# Altium schematic symbol library RC0805.SchLib: 789 symbols (part 11 of 11)
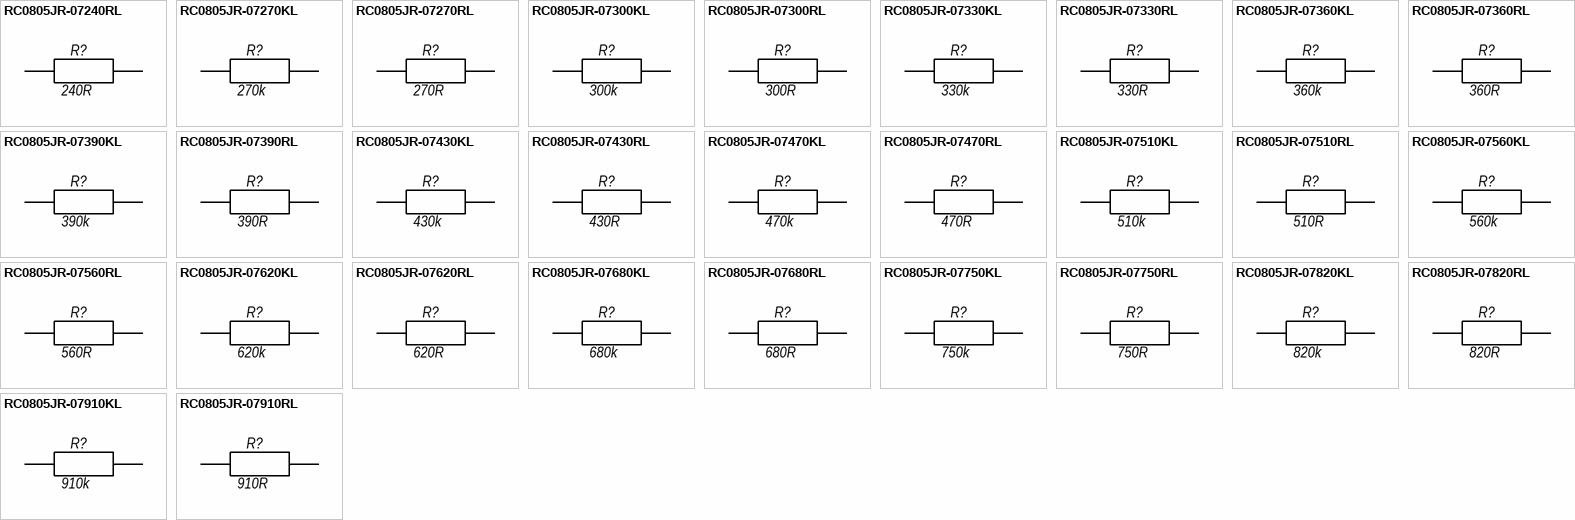
[diagram p29: symbols RC0805JR-07240RL to RC0805JR-07910RL]

## RC0805JR-07820KL
designator R?, comment 820k
RC0805JR-07820KL 0805 820 kOhm ±5% 1/8W 0805 SMD -55C...+155C; Manufacturer: Yageo; BOM2: 820 кОм ±5%, 1/8 Вт, SMD 0805, RC0805JR-07820KL; ValueBOM: RC0805JR-07820KL   Yageo                            (820 кОм ±5%, 1/8 Вт, SMD 0805, RC0805JR-07820KL); Value: 820k; Part Number: RC0805JR-07820KL; Package: 0805; BOM1: 820 kOhm ±5% 1/8W 0805 SMD
footprint RESC_0805_2012N (Chip Resistor, Body 2.0x1.3mm, IPC Medium Density)
footprint RESC_0805_2012M (Chip Resistor, Body 2.0x1.3mm, IPC Low Density)
footprint RESC_0805_2012L (Chip Resistor, Body 2.0x1.3mm, IPC High Density)
pins: 1, 2

## RC0805JR-07820RL
designator R?, comment 820R
RC0805JR-07820RL 0805 820 Ohm ±5% 1/8W 0805 SMD -55C...+155C; Manufacturer: Yageo; BOM2: 820 Ом ±5%, 1/8 Вт, SMD 0805, RC0805JR-07820RL; ValueBOM: RC0805JR-07820RL   Yageo                            (820 Ом ±5%, 1/8 Вт, SMD 0805, RC0805JR-07820RL); Value: 820R; Part Number: RC0805JR-07820RL; Package: 0805; BOM1: 820 Ohm ±5% 1/8W 0805 SMD
footprint RESC_0805_2012N (Chip Resistor, Body 2.0x1.3mm, IPC Medium Density)
footprint RESC_0805_2012M (Chip Resistor, Body 2.0x1.3mm, IPC Low Density)
footprint RESC_0805_2012L (Chip Resistor, Body 2.0x1.3mm, IPC High Density)
pins: 1, 2

## RC0805JR-07910KL
designator R?, comment 910k
RC0805JR-07910KL 0805 910 kOhm ±5% 1/8W 0805 SMD -55C...+155C; Manufacturer: Yageo; BOM2: 910 кОм ±5%, 1/8 Вт, SMD 0805, RC0805JR-07910KL; ValueBOM: RC0805JR-07910KL   Yageo                            (910 кОм ±5%, 1/8 Вт, SMD 0805, RC0805JR-07910KL); Value: 910k; Part Number: RC0805JR-07910KL; Package: 0805; BOM1: 910 kOhm ±5% 1/8W 0805 SMD
footprint RESC_0805_2012N (Chip Resistor, Body 2.0x1.3mm, IPC Medium Density)
footprint RESC_0805_2012M (Chip Resistor, Body 2.0x1.3mm, IPC Low Density)
footprint RESC_0805_2012L (Chip Resistor, Body 2.0x1.3mm, IPC High Density)
pins: 1, 2

## RC0805JR-07910RL
designator R?, comment 910R
RC0805JR-07910RL 0805 910 Ohm ±5% 1/8W 0805 SMD -55C...+155C; Manufacturer: Yageo; BOM2: 910 Ом ±5%, 1/8 Вт, SMD 0805, RC0805JR-07910RL; ValueBOM: RC0805JR-07910RL   Yageo                            (910 Ом ±5%, 1/8 Вт, SMD 0805, RC0805JR-07910RL); Value: 910R; Part Number: RC0805JR-07910RL; Package: 0805; BOM1: 910 Ohm ±5% 1/8W 0805 SMD
footprint RESC_0805_2012N (Chip Resistor, Body 2.0x1.3mm, IPC Medium Density)
footprint RESC_0805_2012M (Chip Resistor, Body 2.0x1.3mm, IPC Low Density)
footprint RESC_0805_2012L (Chip Resistor, Body 2.0x1.3mm, IPC High Density)
pins: 1, 2